# EAGLE library part 61300615721 (library Eagle_BOARD-TO-BOARD_CONNECTORS (rev18b))
WR-PHD 2.54mm Socket Header Bottom Entry, 6 Pins =>Code : Con_BTB_SHD_2.54_1_THT_61300615721 <http://katalog.we-online.de/media/images/eican/Con_BTB_SHD_2.54_1_THT_6130xx15721_pf2.jpg> Details see: http://katalog.we-online.de/en/em/613_0xx_157_21 Created 2014-05-30, Karrer Zheng 2014 (C) Würth Elektronik
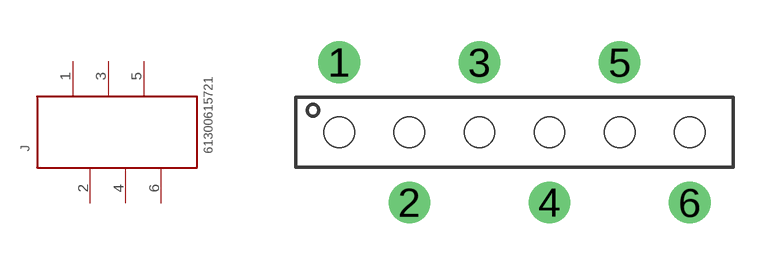
[diagram p148: symbol with the pads of 61300615721; footprint 61300615721]

Designator prefix J

## 61300615721  [61300615721]
1  6  pas
2  5  pas
3  4  pas
4  3  pas
5  2  pas
6  1  pas

## Footprint 61300615721 (pad centres in mm)
WR-PHD 2.54mm Socket Header Bottom Entry, 6 Pins
drill 1: 1 -6.35,2.54; 2 -3.81,-2.54; 3 -1.27,2.54; 4 1.27,-2.54; 5 3.81,2.54; 6 6.35,-2.54
hole 1.1 at -6.35,0
hole 1.1 at -3.81,0
hole 1.1 at -1.27,0
hole 1.1 at 1.27,0
hole 1.1 at 3.81,0
hole 1.1 at 6.35,0